# EAGLE library part L9110 (library L9110)
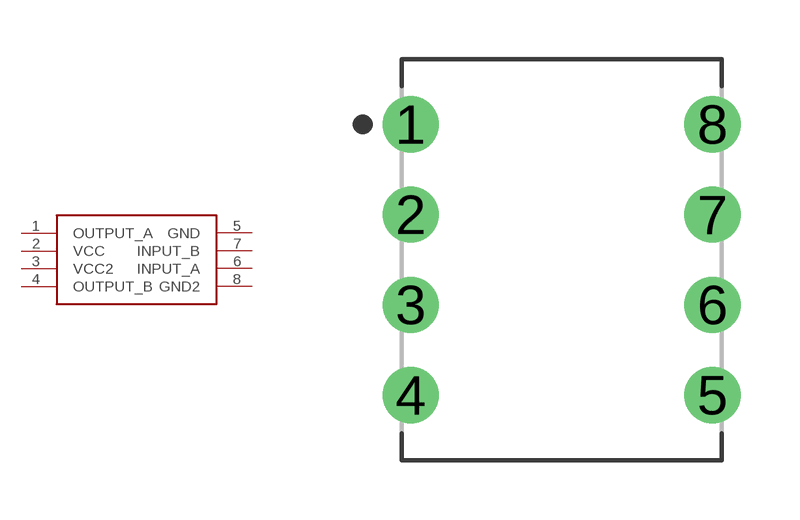
[diagram p0: symbol with the pads of DIP764W53P228L981H508Q8B; footprint DIP764W53P228L981H508Q8B]

Designator prefix -

## L9110DIP-8  [DIP764W53P228L981H508Q8B]
1  OUTPUT_A
2  VCC
3  VCC2
4  OUTPUT_B
5  GND
6  INPUT_A
7  INPUT_B
8  GND2

## Footprint DIP764W53P228L981H508Q8B (pad centres in mm)
8-DIP, 2.29 mm (0.09 in) pitch, 7.64 mm (0.30 in) span, 9.81 X 7.85 X 5.08 mm body 8-pin DIP package with 2.29 mm (0.09 in) pitch, 7.64 mm (0.30 in) span with body size 9.81 X 7.85 X 5.08 mm
drill 0.819 pad 1.419: 1 -3.82,3.429; 2 -3.82,1.143; 3 -3.82,-1.143; 4 -3.82,-3.429; 5 3.82,-3.429; 6 3.82,-1.143; 7 3.82,1.143; 8 3.82,3.429